# Altium schematic symbol library SCH - DRIVER - MOTOR - TRINAMIC TMC2226-SA-T.SchLib: 1 symbol
Pins are listed as number, name and electrical type; pins without a type are passive.

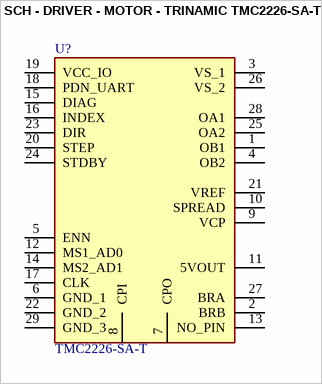
[diagram p0: symbol SCH - DRIVER - MOTOR - TRINAMIC TMC2226-SA-T]

## SCH - DRIVER - MOTOR - TRINAMIC TMC2226-SA-T
designator U?, comment TMC2226-SA-T
pins: 1 OB1, 2 BRB, 3 VS_1, 4 OB2, 5 ENN, 6 GND_1, 7 CPO, 8 CPI, 9 VCP, 10 SPREAD, 11 5VOUT, 12 MS1_AD0, 13 NO_PIN, 14 MS2_AD1, 15 DIAG, 16 INDEX, 17 CLK, 18 PDN_UART, 19 VCC_IO, 20 STEP, 21 VREF, 22 GND_2, 23 DIR, 24 STDBY, 25 OA2, 26 VS_2, 27 BRA, 28 OA1, 29 GND_3